# Altium schematic symbol library TPS27.SchLib: 1 symbol
Pins are listed as number, name and electrical type; pins without a type are passive.

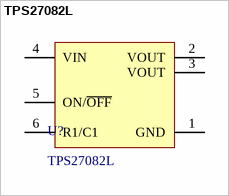
[diagram p0: symbol TPS27082L]

## TPS27082L
designator U?
PFET Load Switch 1.2V to 8V, 3A.
footprint TPS27082L
pins: 1 GND, 2 VOUT, 3 VOUT, 4 VIN, 5 ON/~{OFF}, 6 R1/C1